# EAGLE library part FPC-07WAY (library pimoroni-fpc)
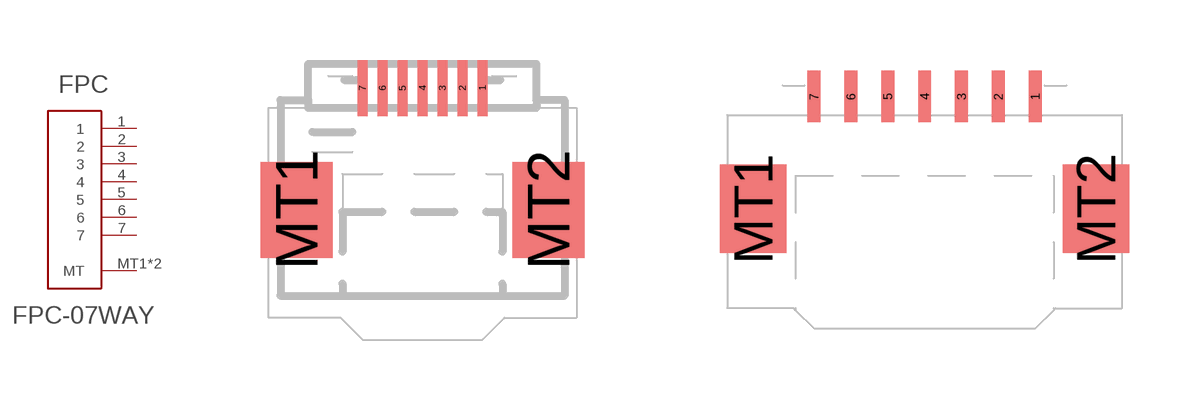
[diagram p2: symbol with the pads of FPC-0.5MM-07WAY; footprints FPC-0.5MM-07WAY, FPC-1.0MM-07WAY]

Designator prefix FPC

## FPC-07WAY0.5  [FPC-0.5MM-07WAY]
1  1
2  2
3  3
4  4
5  5
6  6
7  7
MT1  MT
MT2  MT

## FPC-07WAY1.0  [FPC-1.0MM-07WAY]
Pads as for FPC-0.5MM-07WAY

## Footprint FPC-0.5MM-07WAY (pad centres in mm)
smd 0.25 x 1.4: 1 1.5,0.7; 2 1,0.7; 3 0.5,0.7; 4 0,0.7; 5 -0.5,0.7; 6 -1,0.7; 7 -1.5,0.7
smd 1.8 x 2.4: MT1 -3.15,-2.35; MT2 3.15,-2.35

## Footprint FPC-1.0MM-07WAY (pad centres in mm)
smd 0.35 x 1.4: 1 3,0.7; 2 2,0.7; 3 1,0.7; 4 0,0.7; 5 -1,0.7; 6 -2,0.7; 7 -3,0.7
smd 1.8 x 2.4: MT1 -4.65,-2.35; MT2 4.65,-2.35